# Altium schematic symbol library IRFZ48NPBF.SchLib: 1 symbol
Pins are listed as number, name and electrical type; pins without a type are passive.

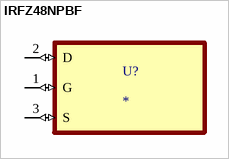
[diagram p0: symbol IRFZ48NPBF]

## IRFZ48NPBF
designator U?
MF: {'manufacturer': u'Infineon Technologies'}; MP: IRFZ48NPBF; Package: None; Price: None; Value: *; Availability: Unavailable
footprint TO254P1041X444X1930-3
pins: 1 G (io), 2 D (io), 3 S (io)